# Altium footprint library Footprints.PcbLib: 11 footprints
Each footprint in its own frame and in the unit in brackets; x right, y up, seen from the top. Pads: shape width x height; smd on the part's side, far side on the other; paste and mask are expansions set on the pad; w line width, h text height; cw(c..) or ccw(c..) is an arc to the next point about the centre after c.
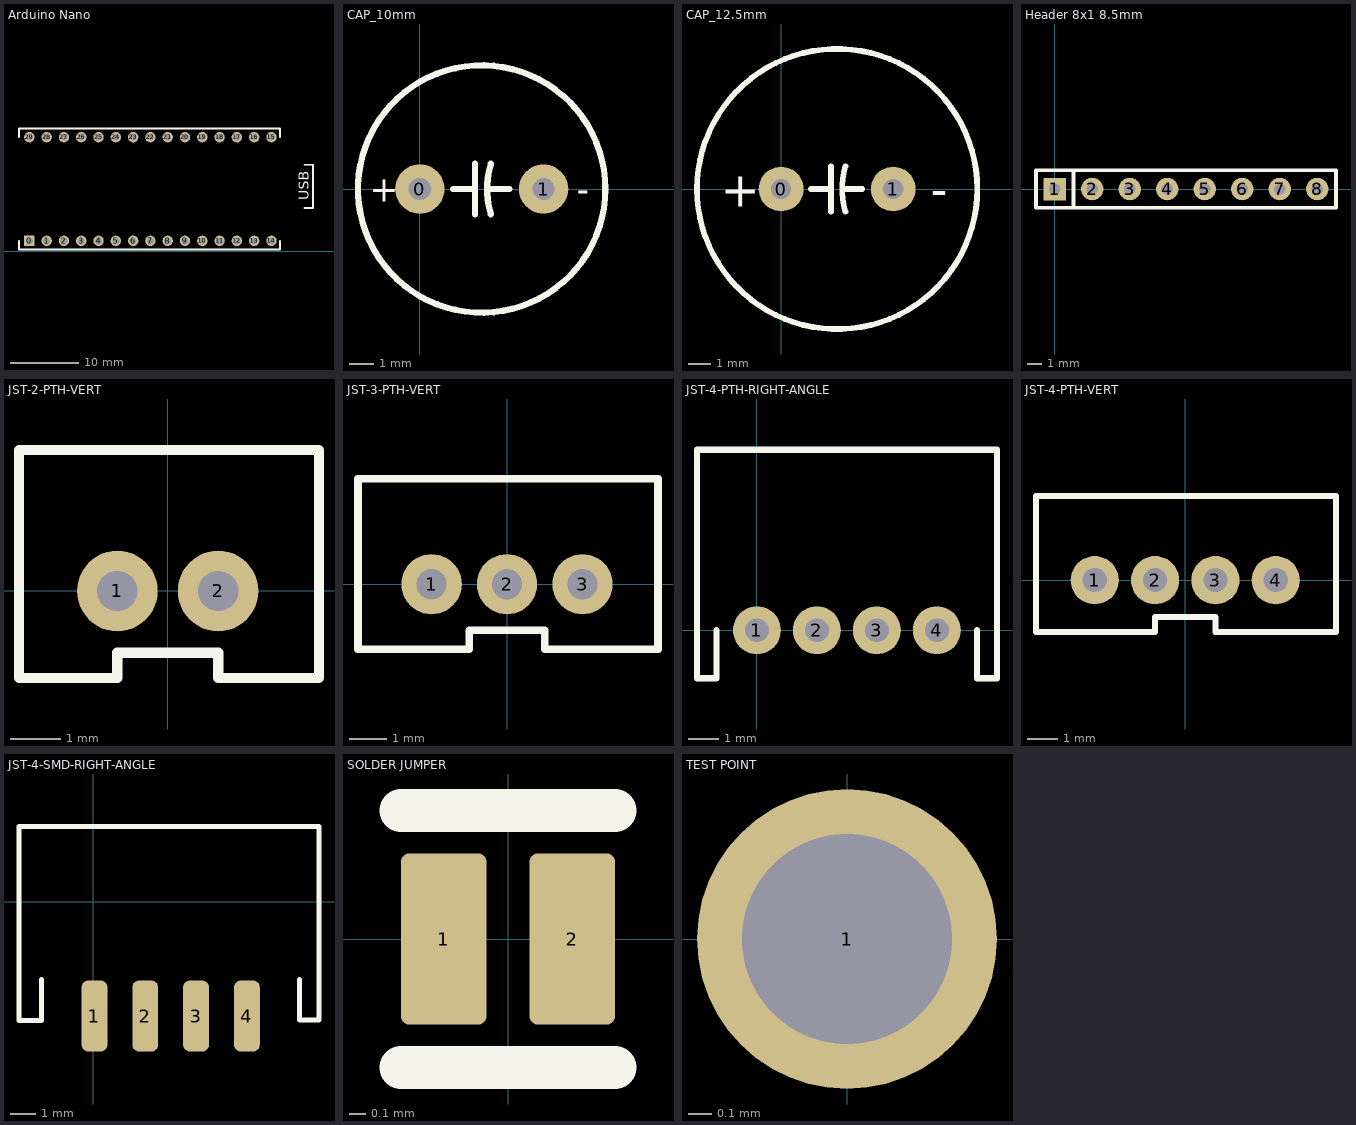
[diagram p0: the footprints below, top view; thin cyan lines are the x and y axes]

## Arduino Nano [mil]
height 1700
pads (30):
  rect 60x60 hole 40: 0(160,60)
  round 60 hole 40: 1(260,60) 2(360,60) 3(460,60) 4(560,60) 5(660,60) 6(760,60) 7(860,60) 8(960,60) 9(1060,60) 10(1160,60) 11(1260,60) 12(1360,60) 13(1460,60) 14(1560,60) 15(1560,660) 16(1460,660) 17(1360,660) 18(1260,660) 19(1160,660) 20(1060,660) 21(960,660) 22(860,660) 23(760,660) 24(660,660) 25(560,660) 26(460,660) 27(360,660) 28(260,660) 29(160,660)
Top Overlay:
  lines w10: 100,60 100,10 1610,10 1610,60 ; 100,660 100,710 1610,710 1610,660 ; 1750,250 1800,250 1800,500 1750,500
  text "USB" at 1775,295 h60
3D body "arduino nano.STEP": height 497.64, standoff -234.65, extent 9.61,5.68 1781.27,714.34

## CAP_10mm [mm]
pads (2):
  round 2 hole 0.9: 0(0,0) 1(5,0)
Top Overlay:
  circle w0.254: c2.5,0 r5
  lines w0.254: 1.336,0 2.225,0 ; 2.225,-1.016 2.225,1.016 ; 2.733,0 3.622,0 ; 2.87,-1.016 cw(c6.172,0) 2.87,1.016
  text "-" at 6.35,-0.508 h1.02
  text "+" at -2.032,-0.508 h1.02
3D body: height 10, standoff 0, extent -2.46,-5 7.54,5

## CAP_12.5mm [mm]
pads (2):
  round 2 hole 0.9: 0(0,0) 1(5,0)
Top Overlay:
  circle w0.254: c2.5,0 r6.25
  lines w0.254: 1.336,0 2.225,0 ; 2.225,-1.016 2.225,1.016 ; 2.733,0 3.622,0 ; 2.87,-1.016 cw(c6.172,0) 2.87,1.016
  text "-" at 6.68,-0.762 h1.52
  text "+" at -2.7,-0.8 h1.52
3D body "User Library-CAPPR500-1250x2000.STEP": height 20, standoff -7.5, extent -3.75,-6.25 8.75,6.25

## Header 8x1 8.5mm [mil] "Stackable 8 pin header"
pads (8):
  rect 60x60 hole 30: 1(0,0)
  round 60 hole 30: 2(100,0) 3(200,0) 4(300,0) 5(400,0) 6(500,0) 7(600,0) 8(700,0)
Top Overlay:
  lines w10: 50,-50 50,50 ; -50,-50 750,-50 750,50 -50,50 -50,-50
3D body "Pin Header 1x8 TH Pitch 2.54mm.stp": height 125.98, standoff -373.85, extent -50,-50 750,50

## JST-2-PTH-VERT [mil]
pads (2):
  round 63 hole 31.5: 1(-39.37,0) 2(39.37,0)
Top Overlay:
  lines w7.99: -116.14,-67.84 -39.37,-67.84
  lines w8: -116.14,-67.84 -116.14,110 118.11,110 118.11,-67.84 39.37,-67.84 39.37,-48.16 -39.37,-48.16 -39.37,-67.84
3D body "B2B-PH-K-S.STEP": height 236.22, standoff -133.86, extent -113.86,-63.86 118.43,113.31

## JST-3-PTH-VERT [mil]
pads (3):
  round 63 hole 31.5: 1(-78.74,0) 2(0,0) 3(78.74,0)
Top Overlay:
  lines w7.99: -155.51,-67.84 -39.37,-67.84
  lines w8: -155.51,-67.84 -155.51,110 157.48,110 157.48,-67.84 39.37,-67.84 39.37,-48.16 -39.37,-48.16 -39.37,-67.84
3D body "B3B-PH-K-S.STEP": height 236.22, standoff -133.86, extent -154.52,-66.92 156.5,110.24

## JST-4-PTH-RIGHT-ANGLE [mil]
pads (4):
  round 63 hole 31.5: 1(0,0) 2(78.74,0) 3(157.48,0) 4(236.22,0)
Top Overlay:
  lines w8: -78.74,237 -78.74,-62.99 -53.15,-62.99 -53.15,0 ; -78.48,237 315.22,237 315.22,-62.99 289.22,-62.99 289.22,0
3D body "S4B-PH-K-S.STEP": height 192.76, standoff -130.08, extent -74.88,-60 314.88,239.21

## JST-4-PTH-VERT [mil]
pads (4):
  round 63 hole 31.5: 1(-118.11,0) 2(-39.37,0) 3(39.37,0) 4(118.11,0)
Top Overlay:
  lines w7.99: -194.88,-67.84 -39.37,-67.84
  lines w8: -194.88,-67.84 -194.88,110 196.85,110 196.85,-67.84 39.37,-67.84 39.37,-48.16 -39.37,-48.16 -39.37,-67.84
3D body "B4B-PH-K-S.STEP": height 236.22, standoff -133.86, extent -194.88,-70 194.88,107.16

## JST-4-SMD-RIGHT-ANGLE [mil]
pads (4):
  rrect50% 40x110 all layers, no hole: 1(2,-176.85) 2(80.74,-176.85) 3(159.48,-176.85) 4(238.22,-176.85)
Top Overlay:
  lines w8: -80,-120 -80,-183.99 -115,-183.99 -115,117 350,117 350,-182.99 320,-182.99 320,-120
3D body "S4B-PH-SM4-TB.STEP": height 216.54, standoff -3.94, extent -114.25,-220 354.25,118.59

## SOLDER JUMPER [mil]
height 5
pads (2):
  rrect20% 20x40 smd: 1(-15,0) 2(15,0)
Top Overlay:
  lines w10: -25,-30 -15,-30 25,-30 ; -25,30 15,30 25,30

## TEST POINT [mil]
pads (1):
  round 50 hole 35: 1(0,0)